# EAGLE library part 691322310006 (library Wuerth_Elektronik_eiCan_Terminal_Blocks_v2.0)
WR-TBL Serie 322 - 3.81mm Vertical PCB Header , 6 Pins
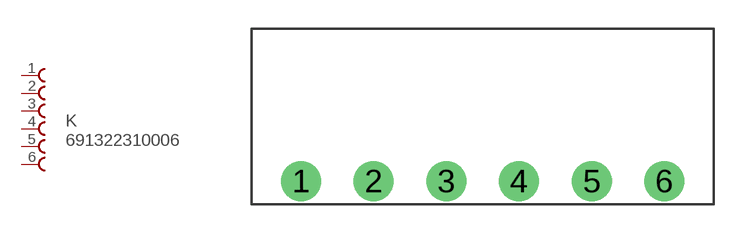
[diagram p38: symbol with the pads of 691322310006; footprint 691322310006]

Designator prefix K

## 691322310006  [691322310006]
1  1  pas
2  2  pas
3  3  pas
4  4  pas
5  5  pas
6  6  pas

## Footprint 691322310006 (pad centres in mm)
WR-TBL Serie 322 - 3.81mm Vertical PCB Header , 6 Pins
drill 1.4 round: 1 -3.81,0; 2 0,0; 3 3.81,0; 4 7.62,0; 5 11.43,0; 6 15.24,0